# Altium footprint library 5322.PcbLib: 1 footprints
Each footprint in its own frame and in the unit in brackets; x right, y up, seen from the top. Pads: shape width x height; smd on the part's side, far side on the other; paste and mask are expansions set on the pad; w line width, h text height; cw(c..) or ccw(c..) is an arc to the next point about the centre after c.
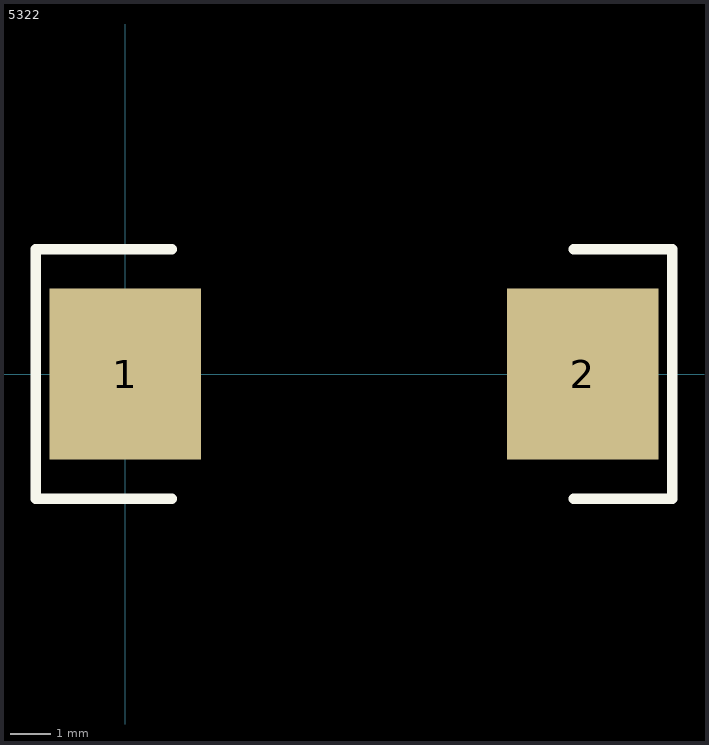
[diagram p0: the footprint, top view; thin cyan lines are the x and y axes]

## 5322 [mil]
pads (2):
  rect 146x165 smd: 1(0,0) 2(441,0)
Top Overlay:
  lines w10: 45,-120 -86,-120 -86,120 45,120 ; 432,-120 527,-120 527,120 432,120
3D body: height 230, standoff 0, extent -46,-109 486,109